# Altium footprint library freescale.PCBLIB: 12 footprints (part 1 of 2)
Each footprint in its own frame and in the unit in brackets; x right, y up, seen from the top. Pads: shape width x height; smd on the part's side, far side on the other; paste and mask are expansions set on the pad; w line width, h text height; cw(c..) or ccw(c..) is an arc to the next point about the centre after c.
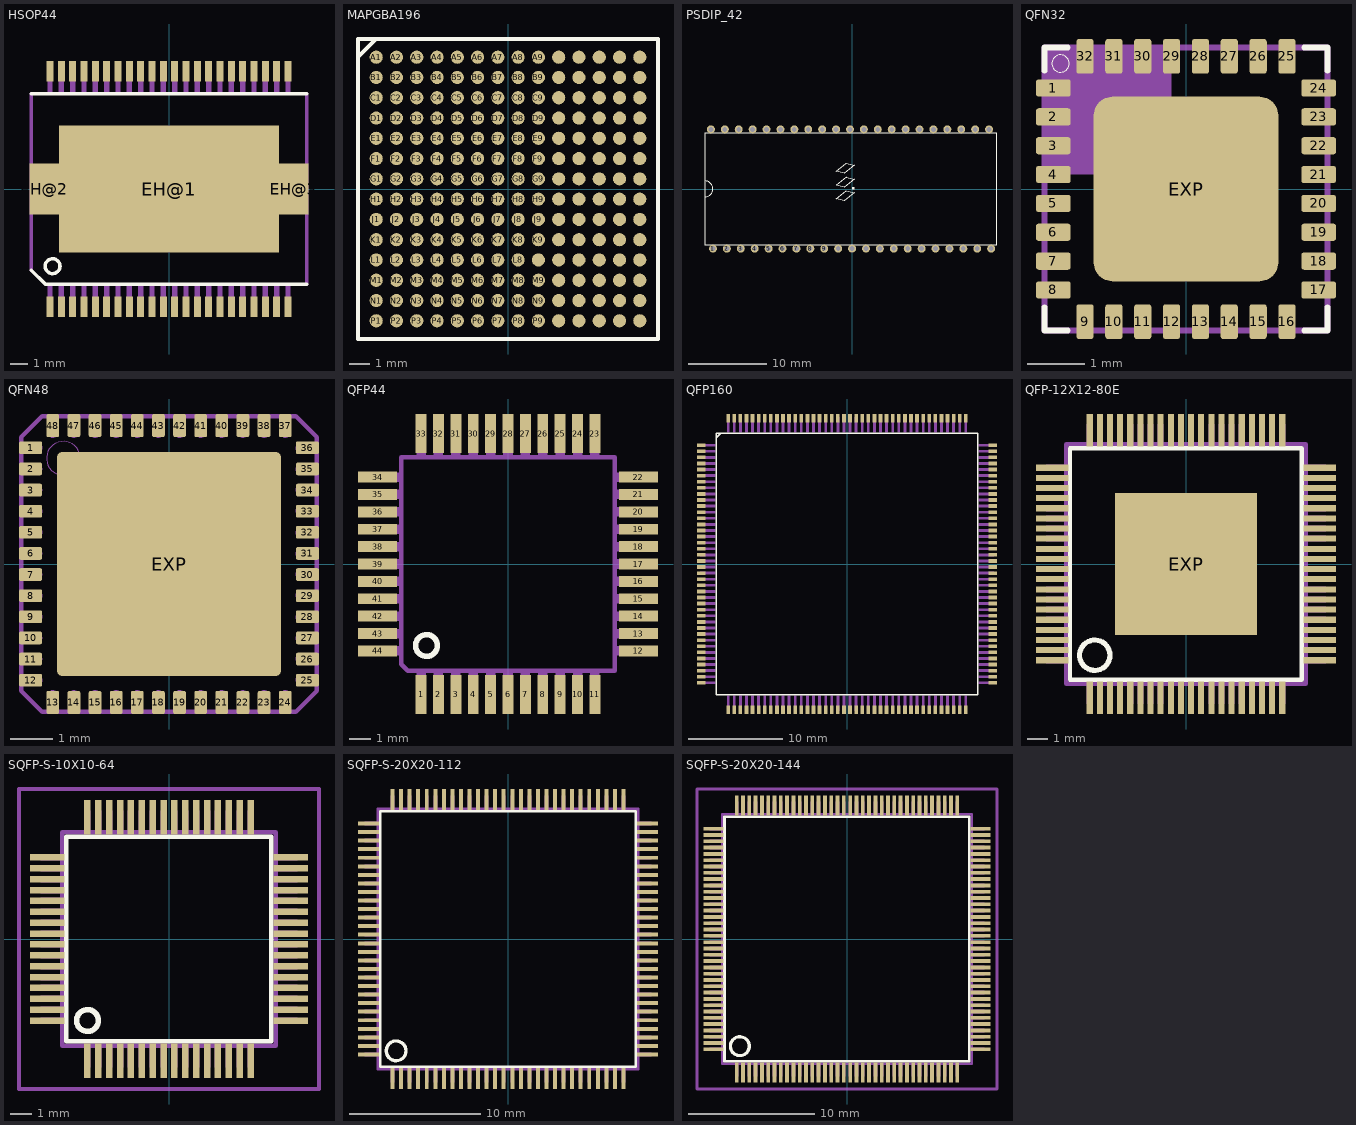
[diagram p0: the footprints below, top view; thin cyan lines are the x and y axes]

## HSOP44 [mm]
pads (47):
  rect 0.4x1.2 smd: 1(-6.825,-6.75) 2(-6.175,-6.75) 3(-5.525,-6.75) 4(-4.875,-6.75) 5(-4.225,-6.75) 6(-3.575,-6.75) 7(-2.925,-6.75) 8(-2.275,-6.75) 9(-1.625,-6.75) 10(-0.975,-6.75) 11(-0.325,-6.75) 12(0.325,-6.75) 13(0.975,-6.75) 14(1.625,-6.75) 15(2.275,-6.75) 16(2.925,-6.75) 17(3.575,-6.75) 18(4.225,-6.75) 19(4.875,-6.75) 20(5.525,-6.75) 21(6.175,-6.75) 22(6.825,-6.75) 23(6.825,6.75) 24(6.175,6.75) 25(5.525,6.75) 26(4.875,6.75) 27(4.225,6.75) 28(3.575,6.75) 29(2.925,6.75) 30(2.275,6.75) 31(1.625,6.75) 32(0.975,6.75) 33(0.325,6.75) 34(-0.325,6.75) 35(-0.975,6.75) 36(-1.625,6.75) 37(-2.275,6.75) 38(-2.925,6.75) 39(-3.575,6.75) 40(-4.225,6.75) 41(-4.875,6.75) 42(-5.525,6.75) 43(-6.175,6.75) 44(-6.825,6.75)
  rect 12.6x7.3 smd: EH@1(0,0)
  rect 1.7x2.9 smd: EH@2(-7.15,0) EH@3(7.15,0)
Top Overlay:
  circle w0.203: c-6.675,-4.425 r0.425
  lines w0.203: -7.9,-4.65 -7.1,-5.45 7.9,-5.45 ; -7.9,5.45 7.9,5.45
Top Solder:
  region: -6.6,-7.375 -6.6,-6.125 -7.05,-6.125 -7.05,-7.375
  region: -5.95,-7.375 -5.95,-6.125 -6.4,-6.125 -6.4,-7.375
  region: -5.3,-7.375 -5.3,-6.125 -5.75,-6.125 -5.75,-7.375
  region: -4.65,-7.375 -4.65,-6.125 -5.1,-6.125 -5.1,-7.375
  region: -4,-7.375 -4,-6.125 -4.45,-6.125 -4.45,-7.375
  region: -3.35,-7.375 -3.35,-6.125 -3.8,-6.125 -3.8,-7.375
  region: -2.7,-7.375 -2.7,-6.125 -3.15,-6.125 -3.15,-7.375
  region: -2.05,-7.375 -2.05,-6.125 -2.5,-6.125 -2.5,-7.375
  region: -1.4,-7.375 -1.4,-6.125 -1.85,-6.125 -1.85,-7.375
  region: -0.75,-7.375 -0.75,-6.125 -1.2,-6.125 -1.2,-7.375
  region: -0.1,-7.375 -0.1,-6.125 -0.55,-6.125 -0.55,-7.375
  region: 0.55,-7.375 0.55,-6.125 0.1,-6.125 0.1,-7.375
  region: 1.2,-7.375 1.2,-6.125 0.75,-6.125 0.75,-7.375
  region: 1.85,-7.375 1.85,-6.125 1.4,-6.125 1.4,-7.375
  region: 2.5,-7.375 2.5,-6.125 2.05,-6.125 2.05,-7.375
  region: 3.15,-7.375 3.15,-6.125 2.7,-6.125 2.7,-7.375
  region: 3.8,-7.375 3.8,-6.125 3.35,-6.125 3.35,-7.375
  region: 4.45,-7.375 4.45,-6.125 4,-6.125 4,-7.375
  region: 5.1,-7.375 5.1,-6.125 4.65,-6.125 4.65,-7.375
  region: 5.75,-7.375 5.75,-6.125 5.3,-6.125 5.3,-7.375
  region: 6.4,-7.375 6.4,-6.125 5.95,-6.125 5.95,-7.375
  region: 7.05,-7.375 7.05,-6.125 6.6,-6.125 6.6,-7.375
  region: 6.6,7.375 6.6,6.125 7.05,6.125 7.05,7.375
  region: 5.95,7.375 5.95,6.125 6.4,6.125 6.4,7.375
  region: 5.3,7.375 5.3,6.125 5.75,6.125 5.75,7.375
  region: 4.65,7.375 4.65,6.125 5.1,6.125 5.1,7.375
  region: 4,7.375 4,6.125 4.45,6.125 4.45,7.375
  region: 3.35,7.375 3.35,6.125 3.8,6.125 3.8,7.375
  region: 2.7,7.375 2.7,6.125 3.15,6.125 3.15,7.375
  region: 2.05,7.375 2.05,6.125 2.5,6.125 2.5,7.375
  region: 1.4,7.375 1.4,6.125 1.85,6.125 1.85,7.375
  region: 0.75,7.375 0.75,6.125 1.2,6.125 1.2,7.375
  region: 0.1,7.375 0.1,6.125 0.55,6.125 0.55,7.375
  region: -0.55,7.375 -0.55,6.125 -0.1,6.125 -0.1,7.375
  region: -1.2,7.375 -1.2,6.125 -0.75,6.125 -0.75,7.375
  region: -1.85,7.375 -1.85,6.125 -1.4,6.125 -1.4,7.375
  region: -2.5,7.375 -2.5,6.125 -2.05,6.125 -2.05,7.375
  region: -3.15,7.375 -3.15,6.125 -2.7,6.125 -2.7,7.375
  region: -3.8,7.375 -3.8,6.125 -3.35,6.125 -3.35,7.375
  region: -4.45,7.375 -4.45,6.125 -4,6.125 -4,7.375
  region: -5.1,7.375 -5.1,6.125 -4.65,6.125 -4.65,7.375
  region: -5.75,7.375 -5.75,6.125 -5.3,6.125 -5.3,7.375
  region: -6.4,7.375 -6.4,6.125 -5.95,6.125 -5.95,7.375
  region: -7.05,7.375 -7.05,6.125 -6.6,6.125 -6.6,7.375
Mechanical 16:
  region: -6.675,-7.225 -6.675,-5.55 -6.975,-5.55 -6.975,-7.225
  region: -6.025,-7.225 -6.025,-5.55 -6.325,-5.55 -6.325,-7.225
  region: -5.375,-7.225 -5.375,-5.55 -5.675,-5.55 -5.675,-7.225
  region: -4.725,-7.225 -4.725,-5.55 -5.025,-5.55 -5.025,-7.225
  region: -4.075,-7.225 -4.075,-5.55 -4.375,-5.55 -4.375,-7.225
  region: -3.425,-7.225 -3.425,-5.55 -3.725,-5.55 -3.725,-7.225
  region: -2.775,-7.225 -2.775,-5.55 -3.075,-5.55 -3.075,-7.225
  region: -2.125,-7.225 -2.125,-5.55 -2.425,-5.55 -2.425,-7.225
  region: -1.475,-7.225 -1.475,-5.55 -1.775,-5.55 -1.775,-7.225
  region: -0.825,-7.225 -0.825,-5.55 -1.125,-5.55 -1.125,-7.225
  region: -0.175,-7.225 -0.175,-5.55 -0.475,-5.55 -0.475,-7.225
  region: 0.475,-7.225 0.475,-5.55 0.175,-5.55 0.175,-7.225
  region: 1.125,-7.225 1.125,-5.55 0.825,-5.55 0.825,-7.225
  region: 1.775,-7.225 1.775,-5.55 1.475,-5.55 1.475,-7.225
  region: 2.425,-7.225 2.425,-5.55 2.125,-5.55 2.125,-7.225
  region: 3.075,-7.225 3.075,-5.55 2.775,-5.55 2.775,-7.225
  region: 3.725,-7.225 3.725,-5.55 3.425,-5.55 3.425,-7.225
  region: 4.375,-7.225 4.375,-5.55 4.075,-5.55 4.075,-7.225
  region: 5.025,-7.225 5.025,-5.55 4.725,-5.55 4.725,-7.225
  region: 5.675,-7.225 5.675,-5.55 5.375,-5.55 5.375,-7.225
  region: 6.325,-7.225 6.325,-5.55 6.025,-5.55 6.025,-7.225
  region: 6.975,-7.225 6.975,-5.55 6.675,-5.55 6.675,-7.225
  region: 6.675,7.225 6.675,5.55 6.975,5.55 6.975,7.225
  region: 6.025,7.225 6.025,5.55 6.325,5.55 6.325,7.225
  region: 5.375,7.225 5.375,5.55 5.675,5.55 5.675,7.225
  region: 4.725,7.225 4.725,5.55 5.025,5.55 5.025,7.225
  region: 4.075,7.225 4.075,5.55 4.375,5.55 4.375,7.225
  region: 3.425,7.225 3.425,5.55 3.725,5.55 3.725,7.225
  region: 2.775,7.225 2.775,5.55 3.075,5.55 3.075,7.225
  region: 2.125,7.225 2.125,5.55 2.425,5.55 2.425,7.225
  region: 1.475,7.225 1.475,5.55 1.775,5.55 1.775,7.225
  region: 0.825,7.225 0.825,5.55 1.125,5.55 1.125,7.225
  region: 0.175,7.225 0.175,5.55 0.475,5.55 0.475,7.225
  region: -0.475,7.225 -0.475,5.55 -0.175,5.55 -0.175,7.225
  region: -1.125,7.225 -1.125,5.55 -0.825,5.55 -0.825,7.225
  region: -1.775,7.225 -1.775,5.55 -1.475,5.55 -1.475,7.225
  region: -2.425,7.225 -2.425,5.55 -2.125,5.55 -2.125,7.225
  region: -3.075,7.225 -3.075,5.55 -2.775,5.55 -2.775,7.225
  region: -3.725,7.225 -3.725,5.55 -3.425,5.55 -3.425,7.225
  region: -4.375,7.225 -4.375,5.55 -4.075,5.55 -4.075,7.225
  region: -5.025,7.225 -5.025,5.55 -4.725,5.55 -4.725,7.225
  region: -5.675,7.225 -5.675,5.55 -5.375,5.55 -5.375,7.225
  region: -6.325,7.225 -6.325,5.55 -6.025,5.55 -6.025,7.225
  region: -6.975,7.225 -6.975,5.55 -6.675,5.55 -6.675,7.225
  lines w0.203: -7.9,-4.65 -7.9,-1.25 ; -7.9,5.45 -7.9,1.25 ; 7.9,-5.45 7.9,-1.25 ; 7.9,5.45 7.9,1.25 ; -7.9,-1.25 -6.8,-1.25 -6.8,1.25 -7.9,1.25 ; -7.9,-1.25 -7.9,1.25 ; 7.9,-1.25 6.8,-1.25 6.8,1.25 7.9,1.25 ; 7.9,-1.25 7.9,1.25

## MAPGBA196 [mm]
pads (196):
  rrect100% 0.65x0.65 smd: A1(-6.5,6.5) A2(-5.5,6.5) A3(-4.5,6.5) A4(-3.5,6.5) A5(-2.5,6.5) A6(-1.5,6.5) A7(-0.5,6.5) A8(0.5,6.5) A9(1.5,6.5) A10(2.5,6.5) A11(3.5,6.5) A12(4.5,6.5) A13(5.5,6.5) A14(6.5,6.5) B1(-6.5,5.5) B2(-5.5,5.5) B3(-4.5,5.5) B4(-3.5,5.5) B5(-2.5,5.5) B6(-1.5,5.5) B7(-0.5,5.5) B8(0.5,5.5) B9(1.5,5.5) B10(2.5,5.5) B11(3.5,5.5) B12(4.5,5.5) B13(5.5,5.5) B14(6.5,5.5) C1(-6.5,4.5) C2(-5.5,4.5) C3(-4.5,4.5) C4(-3.5,4.5) C5(-2.5,4.5) C6(-1.5,4.5) C7(-0.5,4.5) C8(0.5,4.5) C9(1.5,4.5) C10(2.5,4.5) C11(3.5,4.5) C12(4.5,4.5) C13(5.5,4.5) C14(6.5,4.5) D1(-6.5,3.5) D2(-5.5,3.5) D3(-4.5,3.5) D4(-3.5,3.5) D5(-2.5,3.5) D6(-1.5,3.5) D7(-0.5,3.5) D8(0.5,3.5) D9(1.5,3.5) D10(2.5,3.5) D11(3.5,3.5) D12(4.5,3.5) D13(5.5,3.5) D14(6.5,3.5) E1(-6.5,2.5) E2(-5.5,2.5) E3(-4.5,2.5) E4(-3.5,2.5) E5(-2.5,2.5) E6(-1.5,2.5) E7(-0.5,2.5) E8(0.5,2.5) E9(1.5,2.5) E10(2.5,2.5) E11(3.5,2.5) E12(4.5,2.5) E13(5.5,2.5) E14(6.5,2.5) F1(-6.5,1.5) F2(-5.5,1.5) F3(-4.5,1.5) F4(-3.5,1.5) F5(-2.5,1.5) F6(-1.5,1.5) F7(-0.5,1.5) F8(0.5,1.5) F9(1.5,1.5) F10(2.5,1.5) F11(3.5,1.5) F12(4.5,1.5) F13(5.5,1.5) F14(6.5,1.5) G1(-6.5,0.5) G2(-5.5,0.5) G3(-4.5,0.5) G4(-3.5,0.5) G5(-2.5,0.5) G6(-1.5,0.5) G7(-0.5,0.5) G8(0.5,0.5) G9(1.5,0.5) G10(2.5,0.5) G11(3.5,0.5) G12(4.5,0.5) G13(5.5,0.5) G14(6.5,0.5) H1(-6.5,-0.5) H2(-5.5,-0.5) H3(-4.5,-0.5) H4(-3.5,-0.5) H5(-2.5,-0.5) H6(-1.5,-0.5) H7(-0.5,-0.5) H8(0.5,-0.5) H9(1.5,-0.5) H10(2.5,-0.5) H11(3.5,-0.5) H12(4.5,-0.5) H13(5.5,-0.5) H14(6.5,-0.5) J1(-6.5,-1.5) J2(-5.5,-1.5) J3(-4.5,-1.5) J4(-3.5,-1.5) J5(-2.5,-1.5) J6(-1.5,-1.5) J7(-0.5,-1.5) J8(0.5,-1.5) J9(1.5,-1.5) J10(2.5,-1.5) J11(3.5,-1.5) J12(4.5,-1.5) J13(5.5,-1.5) J14(6.5,-1.5) K1(-6.5,-2.5) K2(-5.5,-2.5) K3(-4.5,-2.5) K4(-3.5,-2.5) K5(-2.5,-2.5) K6(-1.5,-2.5) K7(-0.5,-2.5) K8(0.5,-2.5) K9(1.5,-2.5) K10(2.5,-2.5) K11(3.5,-2.5) K12(4.5,-2.5) K13(5.5,-2.5) K14(6.5,-2.5) L1(-6.5,-3.5) L2(-5.5,-3.5) L3(-4.5,-3.5) L4(-3.5,-3.5) L5(-2.5,-3.5) L6(-1.5,-3.5) L7(-0.5,-3.5) L8(0.5,-3.5) L9,(1.5,-3.5) L10(2.5,-3.5) L11(3.5,-3.5) L12(4.5,-3.5) L13(5.5,-3.5) L14(6.5,-3.5) M1(-6.5,-4.5) M2(-5.5,-4.5) M3(-4.5,-4.5) M4(-3.5,-4.5) M5(-2.5,-4.5) M6(-1.5,-4.5) M7(-0.5,-4.5) M8(0.5,-4.5) M9(1.5,-4.5) M10(2.5,-4.5) M11(3.5,-4.5) M12(4.5,-4.5) M13(5.5,-4.5) M14(6.5,-4.5) N1(-6.5,-5.5) N2(-5.5,-5.5) N3(-4.5,-5.5) N4(-3.5,-5.5) N5(-2.5,-5.5) N6(-1.5,-5.5) N7(-0.5,-5.5) N8(0.5,-5.5) N9(1.5,-5.5) N10(2.5,-5.5) N11(3.5,-5.5) N12(4.5,-5.5) N13(5.5,-5.5) N14(6.5,-5.5) P1(-6.5,-6.5) P2(-5.5,-6.5) P3(-4.5,-6.5) P4(-3.5,-6.5) P5(-2.5,-6.5) P6(-1.5,-6.5) P7(-0.5,-6.5) P8(0.5,-6.5) P9(1.5,-6.5) P10(2.5,-6.5) P11(3.5,-6.5) P12(4.5,-6.5) P13(5.5,-6.5) P14(6.5,-6.5)
Top Overlay:
  lines w0.203: -7.399,6.5 -7.399,7.399 -6.5,7.399 ; -7.399,6.5 -7.399,-7.399 7.399,-7.399 7.399,7.399 -6.5,7.399 ; -7.399,6.5 -6.5,7.399
Top Solder:
  drawing of 196 lines, arcs and shapes, not listed

## PSDIP_42 [mil]
pads (42):
  round 40 hole 24: 1(-700,-300) 2(-630,-300) 3(-560,-300) 4(-490,-300) 5(-420,-300) 6(-350,-300) 7(-280,-300) 8(-210,-300) 9(-140,-300) 10(-70,-300) 11(0,-300) 12(70,-300) 13(140,-300) 14(210,-300) 15(280,-300) 16(350,-300) 17(420,-300) 18(490,-300) 19(560,-300) 20(630,-300) 21(700,-300) 22(689.5,300) 23(619.5,300) 24(549.5,300) 25(479.5,300) 26(409.5,300) 27(339.5,300) 28(269.5,300) 29(199.5,300) 30(129.5,300) 31(59.5,300) 32(-10.5,300) 33(-80.5,300) 34(-150.5,300) 35(-220.5,300) 36(-290.5,300) 37(-360.5,300) 38(-430.5,300) 39(-500.5,300) 40(-570.5,300) 41(-640.5,300) 42(-710.5,300)
Top Overlay:
  region: 0,0 10,0 10,10 0,10
  region: 0,0 10,0 10,10 0,10
  region: 0,0 10,0 10,10 0,10
  region: 0,0 10,0 10,10 0,10
  region: 0,0 10,0 10,10 0,10
  lines w5: -740.5,-39.5 -740.5,40.5 ; -740.5,-39.5 -740.5,-280 729.5,-280 729.5,280 -740.5,280 -740.5,40.5 ; -740.5,-39.5 ccw(c-740.5,0.5) -740.5,40.5 ; -80,-50 -30,-10 10,-20 -40,-60 -80,-50 ; -80,20 -30,60 10,50 -40,10 -80,20 ; -80,90 -40,80 10,120 -30,130 -80,90

## QFN32 [mm]
pads (33):
  rrect30% 0.6x0.3 smd: 1(-2.3,1.75) 2(-2.3,1.25) 3(-2.3,0.75) 4(-2.3,0.25) 5(-2.3,-0.25) 6(-2.3,-0.75) 7(-2.3,-1.25) 8(-2.3,-1.75) 17(2.3,-1.75) 18(2.3,-1.25) 19(2.3,-0.75) 20(2.3,-0.25) 21(2.3,0.25) 22(2.3,0.75) 23(2.3,1.25) 24(2.3,1.75)
  rrect30% 0.3x0.6 smd: 9(-1.75,-2.3) 10(-1.25,-2.3) 11(-0.75,-2.3) 12(-0.25,-2.3) 13(0.25,-2.3) 14(0.75,-2.3) 15(1.25,-2.3) 16(1.75,-2.3) 25(1.75,2.3) 26(1.25,2.3) 27(0.75,2.3) 28(0.25,2.3) 29(-0.25,2.3) 30(-0.75,2.3) 31(-1.25,2.3) 32(-1.75,2.3)
  rrect20% 3.2x3.2 smd: EXP(0,0)
Top Overlay:
  circle w0: c-2.175,2.175 r0.15
  lines w0.102: -2.45,-2.05 -2.45,-2.45 -2.05,-2.45 ; -2.45,2.05 -2.45,2.45 -2.05,2.45 ; 2.05,-2.45 2.45,-2.45 2.45,-2.05 ; 2.05,2.45 2.45,2.45 2.45,2.05
Top Paste:
  rectangle: -0.3,1.1 0.3,1.4
  rectangle: -0.3,0.6 0.3,0.9
  rectangle: -0.3,0.1 0.3,0.4
  rectangle: -0.3,-0.4 0.3,-0.1
  rectangle: -0.3,-0.9 0.3,-0.6
  rectangle: -0.3,-1.4 0.3,-1.1
  rectangle: -1.3,1.1 -0.7,1.4
  rectangle: -1.3,0.6 -0.7,0.9
  rectangle: -1.3,0.1 -0.7,0.4
  rectangle: -1.3,-0.4 -0.7,-0.1
  rectangle: -1.3,-0.9 -0.7,-0.6
  rectangle: -1.3,-1.4 -0.7,-1.1
  rectangle: 0.7,1.1 1.3,1.4
  rectangle: 0.7,0.6 1.3,0.9
  rectangle: 0.7,0.1 1.3,0.4
  rectangle: 0.7,-0.4 1.3,-0.1
  rectangle: 0.7,-0.9 1.3,-0.6
  rectangle: 0.7,-1.4 1.3,-1.1
  region: 0,0 0.254,0 0.254,0.254 0,0.254
  region: 0,0 0.254,0 0.254,0.254 0,0.254
  region: 0,0 0.254,0 0.254,0.254 0,0.254
  region: 0,0 0.254,0 0.254,0.254 0,0.254
  region: 0,0 0.254,0 0.254,0.254 0,0.254
  region: 0,0 0.254,0 0.254,0.254 0,0.254
  region: 0,0 0.254,0 0.254,0.254 0,0.254
  region: 0,0 0.254,0 0.254,0.254 0,0.254
  region: 0,0 0.254,0 0.254,0.254 0,0.254
  region: 0,0 0.254,0 0.254,0.254 0,0.254
  region: 0,0 0.254,0 0.254,0.254 0,0.254
  region: 0,0 0.254,0 0.254,0.254 0,0.254
  region: 0,0 0.254,0 0.254,0.254 0,0.254
  region: 0,0 0.254,0 0.254,0.254 0,0.254
  region: 0,0 0.254,0 0.254,0.254 0,0.254
  region: 0,0 0.254,0 0.254,0.254 0,0.254
  region: 0,0 0.254,0 0.254,0.254 0,0.254
  region: 0,0 0.254,0 0.254,0.254 0,0.254
  region: 0,0 0.254,0 0.254,0.254 0,0.254
  region: 0,0 0.254,0 0.254,0.254 0,0.254
  region: 0,0 0.254,0 0.254,0.254 0,0.254
  region: 0,0 0.254,0 0.254,0.254 0,0.254
  region: 0,0 0.254,0 0.254,0.254 0,0.254
  region: 0,0 0.254,0 0.254,0.254 0,0.254
  region: 0,0 0.254,0 0.254,0.254 0,0.254
  region: 0,0 0.254,0 0.254,0.254 0,0.254
  region: 0,0 0.254,0 0.254,0.254 0,0.254
  region: 0,0 0.254,0 0.254,0.254 0,0.254
  region: 0,0 0.254,0 0.254,0.254 0,0.254
  region: 0,0 0.254,0 0.254,0.254 0,0.254
  region: 0,0 0.254,0 0.254,0.254 0,0.254
  region: 0,0 0.254,0 0.254,0.254 0,0.254
Top Solder:
  region: 0,0 0.254,0 0.254,0.254 0,0.254
  region: 0,0 0.254,0 0.254,0.254 0,0.254
  region: 0,0 0.254,0 0.254,0.254 0,0.254
  region: 0,0 0.254,0 0.254,0.254 0,0.254
  region: 0,0 0.254,0 0.254,0.254 0,0.254
  region: 0,0 0.254,0 0.254,0.254 0,0.254
  region: 0,0 0.254,0 0.254,0.254 0,0.254
  region: 0,0 0.254,0 0.254,0.254 0,0.254
  region: 0,0 0.254,0 0.254,0.254 0,0.254
  region: 0,0 0.254,0 0.254,0.254 0,0.254
  region: 0,0 0.254,0 0.254,0.254 0,0.254
  region: 0,0 0.254,0 0.254,0.254 0,0.254
  region: 0,0 0.254,0 0.254,0.254 0,0.254
  region: 0,0 0.254,0 0.254,0.254 0,0.254
  region: 0,0 0.254,0 0.254,0.254 0,0.254
  region: 0,0 0.254,0 0.254,0.254 0,0.254
  region: 0,0 0.254,0 0.254,0.254 0,0.254
  region: 0,0 0.254,0 0.254,0.254 0,0.254
  region: 0,0 0.254,0 0.254,0.254 0,0.254
  region: 0,0 0.254,0 0.254,0.254 0,0.254
  region: 0,0 0.254,0 0.254,0.254 0,0.254
  region: 0,0 0.254,0 0.254,0.254 0,0.254
  region: 0,0 0.254,0 0.254,0.254 0,0.254
  region: 0,0 0.254,0 0.254,0.254 0,0.254
  region: 0,0 0.254,0 0.254,0.254 0,0.254
  region: 0,0 0.254,0 0.254,0.254 0,0.254
  region: 0,0 0.254,0 0.254,0.254 0,0.254
  region: 0,0 0.254,0 0.254,0.254 0,0.254
  region: 0,0 0.254,0 0.254,0.254 0,0.254
  region: 0,0 0.254,0 0.254,0.254 0,0.254
  region: 0,0 0.254,0 0.254,0.254 0,0.254
  region: 0,0 0.254,0 0.254,0.254 0,0.254
  region: 0,0 0.254,0 0.254,0.254 0,0.254
Mechanical 16:
  rectangle: -2.5,0.25 -0.25,2.5
  lines w0.102: -2.45,-2.45 2.45,-2.45 2.45,2.45 -2.45,2.45 -2.45,-2.45

## QFN48 [mil]
pads (49):
  rrect30% 21.65x11.81 smd: 1(-128.94,108.27) 2(-128.94,88.58) 3(-128.94,68.9) 4(-128.94,49.21) 5(-128.94,29.53) 6(-128.94,9.84) 7(-128.94,-9.84) 8(-128.94,-29.53) 9(-128.94,-49.21) 10(-128.94,-68.9) 11(-128.94,-88.58) 12(-128.94,-108.27) 25(128.94,-108.27) 26(128.94,-88.58) 27(128.94,-68.9) 28(128.94,-49.21) 29(128.94,-29.53) 30(128.94,-9.84) 31(128.94,9.84) 32(128.94,29.53) 33(128.94,49.21) 34(128.94,68.9) 35(128.94,88.58) 36(128.94,108.27)
  rrect30% 11.81x21.65 smd: 13(-108.27,-128.94) 14(-88.58,-128.94) 15(-68.9,-128.94) 16(-49.21,-128.94) 17(-29.53,-128.94) 18(-9.84,-128.94) 19(9.84,-128.94) 20(29.53,-128.94) 21(49.21,-128.94) 22(68.9,-128.94) 23(88.58,-128.94) 24(108.27,-128.94) 37(108.27,128.94) 38(88.58,128.94) 39(68.9,128.94) 40(49.21,128.94) 41(29.53,128.94) 42(9.84,128.94) 43(-9.84,128.94) 44(-29.53,128.94) 45(-49.21,128.94) 46(-68.9,128.94) 47(-88.58,128.94) 48(-108.27,128.94)
  rrect5% 209x209 smd: EXP(0,0)
Top Paste:
  drawing of 241 lines, arcs and shapes, not listed
Top Solder:
  drawing of 241 lines, arcs and shapes, not listed
Mechanical 16:
  circle w0: c-122.64,108.27 r4.53
  circle w0: c-122.64,88.58 r4.53
  circle w0: c-122.64,68.9 r4.53
  circle w0: c-122.64,49.21 r4.53
  circle w0: c-122.64,29.53 r4.53
  circle w0: c-122.64,9.84 r4.53
  circle w0: c-122.64,-9.84 r4.53
  circle w0: c-122.64,-29.53 r4.53
  circle w0: c-122.64,-49.21 r4.53
  circle w0: c-122.64,-68.9 r4.53
  circle w0: c-122.64,-88.58 r4.53
  circle w0: c-122.64,-108.27 r4.53
  circle w0: c-108.27,-122.64 r4.53
  circle w0: c-88.58,-122.64 r4.53
  circle w0: c-68.9,-122.64 r4.53
  circle w0: c-49.21,-122.64 r4.53
  circle w0: c-29.53,-122.64 r4.53
  circle w0: c-9.84,-122.64 r4.53
  circle w0: c9.84,-122.64 r4.53
  circle w0: c29.53,-122.64 r4.53
  circle w0: c49.21,-122.64 r4.53
  circle w0: c68.9,-122.64 r4.53
  circle w0: c88.58,-122.64 r4.53
  circle w0: c108.27,-122.64 r4.53
  circle w0: c122.64,-108.27 r4.53
  circle w0: c122.64,-88.58 r4.53
  circle w0: c122.64,-68.9 r4.53
  circle w0: c122.64,-49.21 r4.53
  circle w0: c122.64,-29.53 r4.53
  circle w0: c122.64,-9.84 r4.53
  circle w0: c122.64,9.84 r4.53
  circle w0: c122.64,29.53 r4.53
  circle w0: c122.64,49.21 r4.53
  circle w0: c122.64,68.9 r4.53
  circle w0: c122.64,88.58 r4.53
  circle w0: c122.64,108.27 r4.53
  circle w0: c108.27,122.64 r4.53
  circle w0: c88.58,122.64 r4.53
  circle w0: c68.9,122.64 r4.53
  circle w0: c49.21,122.64 r4.53
  circle w0: c29.53,122.64 r4.53
  circle w0: c9.84,122.64 r4.53
  circle w0: c-9.84,122.64 r4.53
  circle w0: c-29.53,122.64 r4.53
  circle w0: c-49.21,122.64 r4.53
  circle w0: c-68.9,122.64 r4.53
  circle w0: c-88.58,122.64 r4.53
  circle w0: c-108.27,122.64 r4.53
  circle w0: c-98.43,98.43 r15.75
  region: -139.77,112.8 -139.77,103.73 -122.84,103.73 -122.84,112.8
  region: -139.77,93.12 -139.77,84.06 -122.84,84.06 -122.84,93.12
  region: -139.77,73.43 -139.77,64.36 -122.84,64.36 -122.84,73.43
  region: -139.77,53.75 -139.77,44.68 -122.84,44.68 -122.84,53.75
  region: -139.77,34.06 -139.77,24.99 -122.84,24.99 -122.84,34.06
  region: -139.77,14.38 -139.77,5.31 -122.84,5.31 -122.84,14.38
  region: -139.77,-5.31 -139.77,-14.38 -122.84,-14.38 -122.84,-5.31
  region: -139.77,-24.99 -139.77,-34.06 -122.84,-34.06 -122.84,-24.99
  region: -139.77,-44.68 -139.77,-53.75 -122.84,-53.75 -122.84,-44.68
  region: -139.77,-64.36 -139.77,-73.43 -122.84,-73.43 -122.84,-64.36
  region: -139.77,-84.06 -139.77,-93.12 -122.84,-93.12 -122.84,-84.06
  region: -139.77,-103.73 -139.77,-112.8 -122.84,-112.8 -122.84,-103.73
  rectangle: -112.8,-139.76 -103.74,-122.83
  rectangle: -93.11,-139.76 -84.06,-122.83
  rectangle: -73.43,-139.76 -64.37,-122.83
  rectangle: -53.74,-139.76 -44.69,-122.83
  rectangle: -34.06,-139.76 -25,-122.83
  rectangle: -14.37,-139.76 -5.32,-122.83
  rectangle: 5.32,-139.76 14.37,-122.83
  rectangle: 25,-139.76 34.06,-122.83
  rectangle: 44.69,-139.76 53.74,-122.83
  rectangle: 64.37,-139.76 73.43,-122.83
  rectangle: 84.06,-139.76 93.11,-122.83
  rectangle: 103.74,-139.76 112.8,-122.83
  region: 139.77,-112.8 139.77,-103.73 122.84,-103.73 122.84,-112.8
  region: 139.77,-93.12 139.77,-84.06 122.84,-84.06 122.84,-93.12
  region: 139.77,-73.43 139.77,-64.36 122.84,-64.36 122.84,-73.43
  region: 139.77,-53.75 139.77,-44.68 122.84,-44.68 122.84,-53.75
  region: 139.77,-34.06 139.77,-24.99 122.84,-24.99 122.84,-34.06
  region: 139.77,-14.38 139.77,-5.31 122.84,-5.31 122.84,-14.38
  region: 139.77,5.31 139.77,14.38 122.84,14.38 122.84,5.31
  region: 139.77,24.99 139.77,34.06 122.84,34.06 122.84,24.99
  region: 139.77,44.68 139.77,53.75 122.84,53.75 122.84,44.68
  region: 139.77,64.36 139.77,73.43 122.84,73.43 122.84,64.36
  region: 139.77,84.06 139.77,93.12 122.84,93.12 122.84,84.06
  region: 139.77,103.73 139.77,112.8 122.84,112.8 122.84,103.73
  region: 112.8,139.76 103.74,139.76 103.74,122.83 112.8,122.83
  region: 93.11,139.76 84.06,139.76 84.06,122.83 93.11,122.83
  region: 73.43,139.76 64.37,139.76 64.37,122.83 73.43,122.83
  region: 53.74,139.76 44.69,139.76 44.69,122.83 53.74,122.83
  region: 34.06,139.76 25,139.76 25,122.83 34.06,122.83
  region: 14.37,139.76 5.32,139.76 5.32,122.83 14.37,122.83
  region: -5.32,139.76 -14.37,139.76 -14.37,122.83 -5.32,122.83
  region: -25,139.76 -34.06,139.76 -34.06,122.83 -25,122.83
  region: -44.69,139.76 -53.74,139.76 -53.74,122.83 -44.69,122.83
  region: -64.37,139.76 -73.43,139.76 -73.43,122.83 -64.37,122.83
  region: -84.06,139.76 -93.11,139.76 -93.11,122.83 -84.06,122.83
  region: -103.74,139.76 -112.8,139.76 -112.8,122.83 -103.74,122.83
  lines w4: -137.8,-118.11 -118.11,-137.8 118.11,-137.8 137.8,-118.11 137.8,118.11 118.11,137.8 -118.11,137.8 -137.8,118.11 -137.8,-118.11

## QFP44 [mm]
pads (44):
  rect 0.5x1.8 smd: 1(-4,-6) 2(-3.2,-6) 3(-2.4,-6) 4(-1.6,-6) 5(-0.8,-6) 6(0,-6) 7(0.8,-6) 8(1.6,-6) 9(2.4,-6) 10(3.2,-6) 11(4,-6) 23(4,6) 24(3.2,6) 25(2.4,6) 26(1.6,6) 27(0.8,6) 28(0,6) 29(-0.8,6) 30(-1.6,6) 31(-2.4,6) 32(-3.2,6) 33(-4,6)
  rect 1.8x0.5 smd: 12(6,-4) 13(6,-3.2) 14(6,-2.4) 15(6,-1.6) 16(6,-0.8) 17(6,0) 18(6,0.8) 19(6,1.6) 20(6,2.4) 21(6,3.2) 22(6,4) 34(-6,4) 35(-6,3.2) 36(-6,2.4) 37(-6,1.6) 38(-6,0.8) 39(-6,0) 40(-6,-0.8) 41(-6,-1.6) 42(-6,-2.4) 43(-6,-3.2) 44(-6,-4)
Top Overlay:
  circle w0.254: c-3.75,-3.75 r0.5
Mechanical 16:
  rectangle: -4.22,-6.72 -3.78,-4.95
  rectangle: -3.42,-6.72 -2.98,-4.95
  rectangle: -2.62,-6.72 -2.18,-4.95
  rectangle: -1.82,-6.72 -1.38,-4.95
  rectangle: -1.02,-6.72 -0.58,-4.95
  rectangle: -0.22,-6.72 0.22,-4.95
  rectangle: 0.58,-6.72 1.02,-4.95
  rectangle: 1.38,-6.72 1.82,-4.95
  rectangle: 2.18,-6.72 2.62,-4.95
  rectangle: 2.98,-6.72 3.42,-4.95
  rectangle: 3.78,-6.72 4.22,-4.95
  rectangle: 4.95,-4.22 6.72,-3.78
  rectangle: 4.95,-3.42 6.72,-2.98
  rectangle: 4.95,-2.62 6.72,-2.18
  rectangle: 4.95,-1.82 6.72,-1.38
  rectangle: 4.95,-1.02 6.72,-0.58
  rectangle: 4.95,-0.22 6.72,0.22
  rectangle: 4.95,0.58 6.72,1.02
  rectangle: 4.95,1.38 6.72,1.82
  rectangle: 4.95,2.18 6.72,2.62
  rectangle: 4.95,2.98 6.72,3.42
  rectangle: 4.95,3.78 6.72,4.22
  rectangle: 3.78,4.95 4.22,6.72
  rectangle: 2.98,4.95 3.42,6.72
  rectangle: 2.18,4.95 2.62,6.72
  rectangle: 1.38,4.95 1.82,6.72
  rectangle: 0.58,4.95 1.02,6.72
  rectangle: -0.22,4.95 0.22,6.72
  rectangle: -1.02,4.95 -0.58,6.72
  rectangle: -1.82,4.95 -1.38,6.72
  rectangle: -2.62,4.95 -2.18,6.72
  rectangle: -3.42,4.95 -2.98,6.72
  rectangle: -4.22,4.95 -3.78,6.72
  rectangle: -6.72,3.78 -4.95,4.22
  rectangle: -6.72,2.98 -4.95,3.42
  rectangle: -6.72,2.18 -4.95,2.62
  rectangle: -6.72,1.38 -4.95,1.82
  rectangle: -6.72,0.58 -4.95,1.02
  rectangle: -6.72,-0.22 -4.95,0.22
  rectangle: -6.72,-1.02 -4.95,-0.58
  rectangle: -6.72,-1.82 -4.95,-1.38
  rectangle: -6.72,-2.62 -4.95,-2.18
  rectangle: -6.72,-3.42 -4.95,-2.98
  rectangle: -6.72,-4.22 -4.95,-3.78
  lines w0.203: -4.91,-4.61 -4.91,4.91 4.91,4.91 4.91,-4.91 -4.61,-4.91 -4.91,-4.61

## QFP160 [mm]
pads (160):
  rect 0.9x0.4 smd: 1(-15.55,12.675) 2(-15.55,12.025) 3(-15.55,11.375) 4(-15.55,10.725) 5(-15.55,10.075) 6(-15.55,9.425) 7(-15.55,8.775) 8(-15.55,8.125) 9(-15.55,7.475) 10(-15.55,6.825) 11(-15.55,6.175) 12(-15.55,5.525) 13(-15.55,4.875) 14(-15.55,4.225) 15(-15.55,3.575) 16(-15.55,2.925) 17(-15.55,2.275) 18(-15.55,1.625) 19(-15.55,0.975) 20(-15.55,0.325) 21(-15.55,-0.325) 22(-15.55,-0.975) 23(-15.55,-1.625) 24(-15.55,-2.275) 25(-15.55,-2.925) 26(-15.55,-3.575) 27(-15.55,-4.225) 28(-15.55,-4.875) 29(-15.55,-5.525) 30(-15.55,-6.175) 31(-15.55,-6.825) 32(-15.55,-7.475) 33(-15.55,-8.125) 34(-15.55,-8.775) 35(-15.55,-9.425) 36(-15.55,-10.075) 37(-15.55,-10.725) 38(-15.55,-11.375) 39(-15.55,-12.025) 40(-15.55,-12.675) 81(15.55,-12.675) 82(15.55,-12.025) 83(15.55,-11.375) 84(15.55,-10.725) 85(15.55,-10.075) 86(15.55,-9.425) 87(15.55,-8.775) 88(15.55,-8.125) 89(15.55,-7.475) 90(15.55,-6.825) 91(15.55,-6.175) 92(15.55,-5.525) 93(15.55,-4.875) 94(15.55,-4.225) 95(15.55,-3.575) 96(15.55,-2.925) 97(15.55,-2.275) 98(15.55,-1.625) 99(15.55,-0.975) 100(15.55,-0.325) 101(15.55,0.325) 102(15.55,0.975) 103(15.55,1.625) 104(15.55,2.275) 105(15.55,2.925) 106(15.55,3.575) 107(15.55,4.225) 108(15.55,4.875) 109(15.55,5.525) 110(15.55,6.175) 111(15.55,6.825) 112(15.55,7.475) 113(15.55,8.125) 114(15.55,8.775) 115(15.55,9.425) 116(15.55,10.075) 117(15.55,10.725) 118(15.55,11.375) 119(15.55,12.025) 120(15.55,12.675)
  rect 0.4x0.9 smd: 41(-12.675,-15.55) 42(-12.025,-15.55) 43(-11.375,-15.55) 44(-10.725,-15.55) 45(-10.075,-15.55) 46(-9.425,-15.55) 47(-8.775,-15.55) 48(-8.125,-15.55) 49(-7.475,-15.55) 50(-6.825,-15.55) 51(-6.175,-15.55) 52(-5.525,-15.55) 53(-4.875,-15.55) 54(-4.225,-15.55) 55(-3.575,-15.55) 56(-2.925,-15.55) 57(-2.275,-15.55) 58(-1.625,-15.55) 59(-0.975,-15.55) 60(-0.325,-15.55) 61(0.325,-15.55) 62(0.975,-15.55) 63(1.625,-15.55) 64(2.275,-15.55) 65(2.925,-15.55) 66(3.575,-15.55) 67(4.225,-15.55) 68(4.875,-15.55) 69(5.525,-15.55) 70(6.175,-15.55) 71(6.825,-15.55) 72(7.475,-15.55) 73(8.125,-15.55) 74(8.775,-15.55) 75(9.425,-15.55) 76(10.075,-15.55) 77(10.725,-15.55) 78(11.375,-15.55) 79(12.025,-15.55) 80(12.675,-15.55) 121(12.675,15.55) 122(12.025,15.55) 123(11.375,15.55) 124(10.725,15.55) 125(10.075,15.55) 126(9.425,15.55) 127(8.775,15.55) 128(8.125,15.55) 129(7.475,15.55) 130(6.825,15.55) 131(6.175,15.55) 132(5.525,15.55) 133(4.875,15.55) 134(4.225,15.55) 135(3.575,15.55) 136(2.925,15.55) 137(2.275,15.55) 138(1.625,15.55) 139(0.975,15.55) 140(0.325,15.55) 141(-0.325,15.55) 142(-0.975,15.55) 143(-1.625,15.55) 144(-2.275,15.55) 145(-2.925,15.55) 146(-3.575,15.55) 147(-4.225,15.55) 148(-4.875,15.55) 149(-5.525,15.55) 150(-6.175,15.55) 151(-6.825,15.55) 152(-7.475,15.55) 153(-8.125,15.55) 154(-8.775,15.55) 155(-9.425,15.55) 156(-10.075,15.55) 157(-10.725,15.55) 158(-11.375,15.55) 159(-12.025,15.55) 160(-12.675,15.55)
Top Overlay:
  lines w0.203: -13.948,13.45 -13.45,13.948 ; -13.948,-13.948 13.948,-13.948 13.948,13.948 -13.948,13.948 -13.948,-13.948
Mechanical 16:
  drawing of 160 lines, arcs and shapes, not listed

## QFP-12X12-80E [mm]
pads (81):
  rect 0.3x1.6 smd: 1(-4.75,-6.6) 2(-4.25,-6.6) 3(-3.75,-6.6) 4(-3.25,-6.6) 5(-2.75,-6.6) 6(-2.25,-6.6) 7(-1.75,-6.6) 8(-1.25,-6.6) 9(-0.75,-6.6) 10(-0.25,-6.6) 11(0.25,-6.6) 12(0.75,-6.6) 13(1.25,-6.6) 14(1.75,-6.6) 15(2.25,-6.6) 16(2.75,-6.6) 17(3.25,-6.6) 18(3.75,-6.6) 19(4.25,-6.6) 20(4.75,-6.6) 41(4.75,6.6) 42(4.25,6.6) 43(3.75,6.6) 44(3.25,6.6) 45(2.75,6.6) 46(2.25,6.6) 47(1.75,6.6) 48(1.25,6.6) 49(0.75,6.6) 50(0.25,6.6) 51(-0.25,6.6) 52(-0.75,6.6) 53(-1.25,6.6) 54(-1.75,6.6) 55(-2.25,6.6) 56(-2.75,6.6) 57(-3.25,6.6) 58(-3.75,6.6) 59(-4.25,6.6) 60(-4.75,6.6)
  rect 1.6x0.3 smd: 21(6.6,-4.75) 22(6.6,-4.25) 23(6.6,-3.75) 24(6.6,-3.25) 25(6.6,-2.75) 26(6.6,-2.25) 27(6.6,-1.75) 28(6.6,-1.25) 29(6.6,-0.75) 30(6.6,-0.25) 31(6.6,0.25) 32(6.6,0.75) 33(6.6,1.25) 34(6.6,1.75) 35(6.6,2.25) 36(6.6,2.75) 37(6.6,3.25) 38(6.6,3.75) 39(6.6,4.25) 40(6.6,4.75) 61(-6.6,4.75) 62(-6.6,4.25) 63(-6.6,3.75) 64(-6.6,3.25) 65(-6.6,2.75) 66(-6.6,2.25) 67(-6.6,1.75) 68(-6.6,1.25) 69(-6.6,0.75) 70(-6.6,0.25) 71(-6.6,-0.25) 72(-6.6,-0.75) 73(-6.6,-1.25) 74(-6.6,-1.75) 75(-6.6,-2.25) 76(-6.6,-2.75) 77(-6.6,-3.25) 78(-6.6,-3.75) 79(-6.6,-4.25) 80(-6.6,-4.75)
  rect 7x7 smd: EXP(0,0)
Top Overlay:
  circle w0.254: c-4.5,-4.5 r0.75
  lines w0.203: -5.72,-5.71 5.71,-5.71 5.71,5.71 -5.72,5.71 -5.72,-5.71
Mechanical 16:
  rectangle: -4.9,-6.9 -4.6,-5.95
  rectangle: -4.4,-6.9 -4.1,-5.95
  rectangle: -3.9,-6.9 -3.6,-5.95
  rectangle: -3.4,-6.9 -3.1,-5.95
  rectangle: -2.9,-6.9 -2.6,-5.95
  rectangle: -2.4,-6.9 -2.1,-5.95
  rectangle: -1.9,-6.9 -1.6,-5.95
  rectangle: -1.4,-6.9 -1.1,-5.95
  rectangle: -0.9,-6.9 -0.6,-5.95
  rectangle: -0.4,-6.9 -0.1,-5.95
  rectangle: 0.1,-6.9 0.4,-5.95
  rectangle: 0.6,-6.9 0.9,-5.95
  rectangle: 1.1,-6.9 1.4,-5.95
  rectangle: 1.6,-6.9 1.9,-5.95
  rectangle: 2.1,-6.9 2.4,-5.95
  rectangle: 2.6,-6.9 2.9,-5.95
  rectangle: 3.1,-6.9 3.4,-5.95
  rectangle: 3.6,-6.9 3.9,-5.95
  rectangle: 4.1,-6.9 4.4,-5.95
  rectangle: 4.6,-6.9 4.9,-5.95
  rectangle: 5.95,-4.9 6.9,-4.6
  rectangle: 5.95,-4.4 6.9,-4.1
  rectangle: 5.95,-3.9 6.9,-3.6
  rectangle: 5.95,-3.4 6.9,-3.1
  rectangle: 5.95,-2.9 6.9,-2.6
  rectangle: 5.95,-2.4 6.9,-2.1
  rectangle: 5.95,-1.9 6.9,-1.6
  rectangle: 5.95,-1.4 6.9,-1.1
  rectangle: 5.95,-0.9 6.9,-0.6
  rectangle: 5.95,-0.4 6.9,-0.1
  rectangle: 5.95,0.1 6.9,0.4
  rectangle: 5.95,0.6 6.9,0.9
  rectangle: 5.95,1.1 6.9,1.4
  rectangle: 5.95,1.6 6.9,1.9
  rectangle: 5.95,2.1 6.9,2.4
  rectangle: 5.95,2.6 6.9,2.9
  rectangle: 5.95,3.1 6.9,3.4
  rectangle: 5.95,3.6 6.9,3.9
  rectangle: 5.95,4.1 6.9,4.4
  rectangle: 5.95,4.6 6.9,4.9
  rectangle: 4.6,5.95 4.9,6.9
  rectangle: 4.1,5.95 4.4,6.9
  rectangle: 3.6,5.95 3.9,6.9
  rectangle: 3.1,5.95 3.4,6.9
  rectangle: 2.6,5.95 2.9,6.9
  rectangle: 2.1,5.95 2.4,6.9
  rectangle: 1.6,5.95 1.9,6.9
  rectangle: 1.1,5.95 1.4,6.9
  rectangle: 0.6,5.95 0.9,6.9
  rectangle: 0.1,5.95 0.4,6.9
  rectangle: -0.4,5.95 -0.1,6.9
  rectangle: -0.9,5.95 -0.6,6.9
  rectangle: -1.4,5.95 -1.1,6.9
  rectangle: -1.9,5.95 -1.6,6.9
  rectangle: -2.4,5.95 -2.1,6.9
  rectangle: -2.9,5.95 -2.6,6.9
  rectangle: -3.4,5.95 -3.1,6.9
  rectangle: -3.9,5.95 -3.6,6.9
  rectangle: -4.4,5.95 -4.1,6.9
  rectangle: -4.9,5.95 -4.6,6.9
  rectangle: -6.9,4.6 -5.95,4.9
  rectangle: -6.9,4.1 -5.95,4.4
  rectangle: -6.9,3.6 -5.95,3.9
  rectangle: -6.9,3.1 -5.95,3.4
  rectangle: -6.9,2.6 -5.95,2.9
  rectangle: -6.9,2.1 -5.95,2.4
  rectangle: -6.9,1.6 -5.95,1.9
  rectangle: -6.9,1.1 -5.95,1.4
  rectangle: -6.9,0.6 -5.95,0.9
  rectangle: -6.9,0.1 -5.95,0.4
  rectangle: -6.9,-0.4 -5.95,-0.1
  rectangle: -6.9,-0.9 -5.95,-0.6
  rectangle: -6.9,-1.4 -5.95,-1.1
  rectangle: -6.9,-1.9 -5.95,-1.6
  rectangle: -6.9,-2.4 -5.95,-2.1
  rectangle: -6.9,-2.9 -5.95,-2.6
  rectangle: -6.9,-3.4 -5.95,-3.1
  rectangle: -6.9,-3.9 -5.95,-3.6
  rectangle: -6.9,-4.4 -5.95,-4.1
  rectangle: -6.9,-4.9 -5.95,-4.6
  lines w0.203: -5.91,-5.91 5.91,-5.91 5.91,5.91 -5.91,5.91 -5.91,-5.91

## SQFP-S-10X10-64 [mm]
pads (64):
  rect 0.3x1.6 smd: 1(-3.75,-5.6) 2(-3.25,-5.6) 3(-2.75,-5.6) 4(-2.25,-5.6) 5(-1.75,-5.6) 6(-1.25,-5.6) 7(-0.75,-5.6) 8(-0.25,-5.6) 9(0.25,-5.6) 10(0.75,-5.6) 11(1.25,-5.6) 12(1.75,-5.6) 13(2.25,-5.6) 14(2.75,-5.6) 15(3.25,-5.6) 16(3.75,-5.6) 33(3.75,5.6) 34(3.25,5.6) 35(2.75,5.6) 36(2.25,5.6) 37(1.75,5.6) 38(1.25,5.6) 39(0.75,5.6) 40(0.25,5.6) 41(-0.25,5.6) 42(-0.75,5.6) 43(-1.25,5.6) 44(-1.75,5.6) 45(-2.25,5.6) 46(-2.75,5.6) 47(-3.25,5.6) 48(-3.75,5.6)
  rect 1.6x0.3 smd: 17(5.6,-3.75) 18(5.6,-3.25) 19(5.6,-2.75) 20(5.6,-2.25) 21(5.6,-1.75) 22(5.6,-1.25) 23(5.6,-0.75) 24(5.6,-0.25) 25(5.6,0.25) 26(5.6,0.75) 27(5.6,1.25) 28(5.6,1.75) 29(5.6,2.25) 30(5.6,2.75) 31(5.6,3.25) 32(5.6,3.75) 49(-5.6,3.75) 50(-5.6,3.25) 51(-5.6,2.75) 52(-5.6,2.25) 53(-5.6,1.75) 54(-5.6,1.25) 55(-5.6,0.75) 56(-5.6,0.25) 57(-5.6,-0.25) 58(-5.6,-0.75) 59(-5.6,-1.25) 60(-5.6,-1.75) 61(-5.6,-2.25) 62(-5.6,-2.75) 63(-5.6,-3.25) 64(-5.6,-3.75)
Top Overlay:
  circle w0.254: c-3.75,-3.75 r0.5
  lines w0.203: -4.72,-4.71 4.71,-4.71 4.71,4.71 -4.72,4.71 -4.72,-4.71
Mechanical 16:
  rectangle: -3.9,-5.9 -3.6,-4.95
  rectangle: -3.4,-5.9 -3.1,-4.95
  rectangle: -2.9,-5.9 -2.6,-4.95
  rectangle: -2.4,-5.9 -2.1,-4.95
  rectangle: -1.9,-5.9 -1.6,-4.95
  rectangle: -1.4,-5.9 -1.1,-4.95
  rectangle: -0.9,-5.9 -0.6,-4.95
  rectangle: -0.4,-5.9 -0.1,-4.95
  rectangle: 0.1,-5.9 0.4,-4.95
  rectangle: 0.6,-5.9 0.9,-4.95
  rectangle: 1.1,-5.9 1.4,-4.95
  rectangle: 1.6,-5.9 1.9,-4.95
  rectangle: 2.1,-5.9 2.4,-4.95
  rectangle: 2.6,-5.9 2.9,-4.95
  rectangle: 3.1,-5.9 3.4,-4.95
  rectangle: 3.6,-5.9 3.9,-4.95
  rectangle: 4.95,-3.9 5.9,-3.6
  rectangle: 4.95,-3.4 5.9,-3.1
  rectangle: 4.95,-2.9 5.9,-2.6
  rectangle: 4.95,-2.4 5.9,-2.1
  rectangle: 4.95,-1.9 5.9,-1.6
  rectangle: 4.95,-1.4 5.9,-1.1
  rectangle: 4.95,-0.9 5.9,-0.6
  rectangle: 4.95,-0.4 5.9,-0.1
  rectangle: 4.95,0.1 5.9,0.4
  rectangle: 4.95,0.6 5.9,0.9
  rectangle: 4.95,1.1 5.9,1.4
  rectangle: 4.95,1.6 5.9,1.9
  rectangle: 4.95,2.1 5.9,2.4
  rectangle: 4.95,2.6 5.9,2.9
  rectangle: 4.95,3.1 5.9,3.4
  rectangle: 4.95,3.6 5.9,3.9
  rectangle: 3.6,4.95 3.9,5.9
  rectangle: 3.1,4.95 3.4,5.9
  rectangle: 2.6,4.95 2.9,5.9
  rectangle: 2.1,4.95 2.4,5.9
  rectangle: 1.6,4.95 1.9,5.9
  rectangle: 1.1,4.95 1.4,5.9
  rectangle: 0.6,4.95 0.9,5.9
  rectangle: 0.1,4.95 0.4,5.9
  rectangle: -0.4,4.95 -0.1,5.9
  rectangle: -0.9,4.95 -0.6,5.9
  rectangle: -1.4,4.95 -1.1,5.9
  rectangle: -1.9,4.95 -1.6,5.9
  rectangle: -2.4,4.95 -2.1,5.9
  rectangle: -2.9,4.95 -2.6,5.9
  rectangle: -3.4,4.95 -3.1,5.9
  rectangle: -3.9,4.95 -3.6,5.9
  rectangle: -5.9,3.6 -4.95,3.9
  rectangle: -5.9,3.1 -4.95,3.4
  rectangle: -5.9,2.6 -4.95,2.9
  rectangle: -5.9,2.1 -4.95,2.4
  rectangle: -5.9,1.6 -4.95,1.9
  rectangle: -5.9,1.1 -4.95,1.4
  rectangle: -5.9,0.6 -4.95,0.9
  rectangle: -5.9,0.1 -4.95,0.4
  rectangle: -5.9,-0.4 -4.95,-0.1
  rectangle: -5.9,-0.9 -4.95,-0.6
  rectangle: -5.9,-1.4 -4.95,-1.1
  rectangle: -5.9,-1.9 -4.95,-1.6
  rectangle: -5.9,-2.4 -4.95,-2.1
  rectangle: -5.9,-2.9 -4.95,-2.6
  rectangle: -5.9,-3.4 -4.95,-3.1
  rectangle: -5.9,-3.9 -4.95,-3.6
  lines w0.203: -4.91,-4.91 4.91,-4.91 4.91,4.91 -4.91,4.91 -4.91,-4.91
Mechanical 27:
  lines w0.2: -6.9,-6.9 -6.9,6.9 6.9,6.9 6.9,-6.9 -6.9,-6.9

## SQFP-S-20X20-112 [mm]
pads (112):
  rect 0.3x1.6 smd: 1(-8.775,-10.6) 2(-8.125,-10.6) 3(-7.475,-10.6) 4(-6.825,-10.6) 5(-6.175,-10.6) 6(-5.525,-10.6) 7(-4.875,-10.6) 8(-4.225,-10.6) 9(-3.575,-10.6) 10(-2.925,-10.6) 11(-2.275,-10.6) 12(-1.625,-10.6) 13(-0.975,-10.6) 14(-0.325,-10.6) 15(0.325,-10.6) 16(0.975,-10.6) 17(1.625,-10.6) 18(2.275,-10.6) 19(2.925,-10.6) 20(3.575,-10.6) 21(4.225,-10.6) 22(4.875,-10.6) 23(5.525,-10.6) 24(6.175,-10.6) 25(6.825,-10.6) 26(7.475,-10.6) 27(8.125,-10.6) 28(8.775,-10.6) 57(8.775,10.6) 58(8.125,10.6) 59(7.475,10.6) 60(6.825,10.6) 61(6.175,10.6) 62(5.525,10.6) 63(4.875,10.6) 64(4.225,10.6) 65(3.575,10.6) 66(2.925,10.6) 67(2.275,10.6) 68(1.625,10.6) 69(0.975,10.6) 70(0.325,10.6) 71(-0.325,10.6) 72(-0.975,10.6) 73(-1.625,10.6) 74(-2.275,10.6) 75(-2.925,10.6) 76(-3.575,10.6) 77(-4.225,10.6) 78(-4.875,10.6) 79(-5.525,10.6) 80(-6.175,10.6) 81(-6.825,10.6) 82(-7.475,10.6) 83(-8.125,10.6) 84(-8.775,10.6)
  rect 1.6x0.3 smd: 29(10.6,-8.775) 30(10.6,-8.125) 31(10.6,-7.475) 32(10.6,-6.825) 33(10.6,-6.175) 34(10.6,-5.525) 35(10.6,-4.875) 36(10.6,-4.225) 37(10.6,-3.575) 38(10.6,-2.925) 39(10.6,-2.275) 40(10.6,-1.625) 41(10.6,-0.975) 42(10.6,-0.325) 43(10.6,0.325) 44(10.6,0.975) 45(10.6,1.625) 46(10.6,2.275) 47(10.6,2.925) 48(10.6,3.575) 49(10.6,4.225) 50(10.6,4.875) 51(10.6,5.525) 52(10.6,6.175) 53(10.6,6.825) 54(10.6,7.475) 55(10.6,8.125) 56(10.6,8.775) 85(-10.6,8.775) 86(-10.6,8.125) 87(-10.6,7.475) 88(-10.6,6.825) 89(-10.6,6.175) 90(-10.6,5.525) 91(-10.6,4.875) 92(-10.6,4.225) 93(-10.6,3.575) 94(-10.6,2.925) 95(-10.6,2.275) 96(-10.6,1.625) 97(-10.6,0.975) 98(-10.6,0.325) 99(-10.6,-0.325) 100(-10.6,-0.975) 101(-10.6,-1.625) 102(-10.6,-2.275) 103(-10.6,-2.925) 104(-10.6,-3.575) 105(-10.6,-4.225) 106(-10.6,-4.875) 107(-10.6,-5.525) 108(-10.6,-6.175) 109(-10.6,-6.825) 110(-10.6,-7.475) 111(-10.6,-8.125) 112(-10.6,-8.775)
Top Overlay:
  circle w0.254: c-8.5,-8.5 r0.75
  lines w0.203: -9.72,-9.71 9.71,-9.71 9.71,9.71 -9.72,9.71 -9.72,-9.71
Mechanical 16:
  rectangle: -8.925,-10.9 -8.625,-9.95
  rectangle: -8.275,-10.9 -7.975,-9.95
  rectangle: -7.625,-10.9 -7.325,-9.95
  rectangle: -6.975,-10.9 -6.675,-9.95
  rectangle: -6.325,-10.9 -6.025,-9.95
  rectangle: -5.675,-10.9 -5.375,-9.95
  rectangle: -5.025,-10.9 -4.725,-9.95
  rectangle: -4.375,-10.9 -4.075,-9.95
  rectangle: -3.725,-10.9 -3.425,-9.95
  rectangle: -3.075,-10.9 -2.775,-9.95
  rectangle: -2.425,-10.9 -2.125,-9.95
  rectangle: -1.775,-10.9 -1.475,-9.95
  rectangle: -1.125,-10.9 -0.825,-9.95
  rectangle: -0.475,-10.9 -0.175,-9.95
  rectangle: 0.175,-10.9 0.475,-9.95
  rectangle: 0.825,-10.9 1.125,-9.95
  rectangle: 1.475,-10.9 1.775,-9.95
  rectangle: 2.125,-10.9 2.425,-9.95
  rectangle: 2.775,-10.9 3.075,-9.95
  rectangle: 3.425,-10.9 3.725,-9.95
  rectangle: 4.075,-10.9 4.375,-9.95
  rectangle: 4.725,-10.9 5.025,-9.95
  rectangle: 5.375,-10.9 5.675,-9.95
  rectangle: 6.025,-10.9 6.325,-9.95
  rectangle: 6.675,-10.9 6.975,-9.95
  rectangle: 7.325,-10.9 7.625,-9.95
  rectangle: 7.975,-10.9 8.275,-9.95
  rectangle: 8.625,-10.9 8.925,-9.95
  region: 10.9,-8.925 10.9,-8.625 9.95,-8.625 9.95,-8.925
  region: 10.9,-8.275 10.9,-7.975 9.95,-7.975 9.95,-8.275
  region: 10.9,-7.625 10.9,-7.325 9.95,-7.325 9.95,-7.625
  region: 10.9,-6.975 10.9,-6.675 9.95,-6.675 9.95,-6.975
  region: 10.9,-6.325 10.9,-6.025 9.95,-6.025 9.95,-6.325
  region: 10.9,-5.675 10.9,-5.375 9.95,-5.375 9.95,-5.675
  region: 10.9,-5.025 10.9,-4.725 9.95,-4.725 9.95,-5.025
  region: 10.9,-4.375 10.9,-4.075 9.95,-4.075 9.95,-4.375
  region: 10.9,-3.725 10.9,-3.425 9.95,-3.425 9.95,-3.725
  region: 10.9,-3.075 10.9,-2.775 9.95,-2.775 9.95,-3.075
  region: 10.9,-2.425 10.9,-2.125 9.95,-2.125 9.95,-2.425
  region: 10.9,-1.775 10.9,-1.475 9.95,-1.475 9.95,-1.775
  region: 10.9,-1.125 10.9,-0.825 9.95,-0.825 9.95,-1.125
  region: 10.9,-0.475 10.9,-0.175 9.95,-0.175 9.95,-0.475
  region: 10.9,0.175 10.9,0.475 9.95,0.475 9.95,0.175
  region: 10.9,0.825 10.9,1.125 9.95,1.125 9.95,0.825
  region: 10.9,1.475 10.9,1.775 9.95,1.775 9.95,1.475
  region: 10.9,2.125 10.9,2.425 9.95,2.425 9.95,2.125
  region: 10.9,2.775 10.9,3.075 9.95,3.075 9.95,2.775
  region: 10.9,3.425 10.9,3.725 9.95,3.725 9.95,3.425
  region: 10.9,4.075 10.9,4.375 9.95,4.375 9.95,4.075
  region: 10.9,4.725 10.9,5.025 9.95,5.025 9.95,4.725
  region: 10.9,5.375 10.9,5.675 9.95,5.675 9.95,5.375
  region: 10.9,6.025 10.9,6.325 9.95,6.325 9.95,6.025
  region: 10.9,6.675 10.9,6.975 9.95,6.975 9.95,6.675
  region: 10.9,7.325 10.9,7.625 9.95,7.625 9.95,7.325
  region: 10.9,7.975 10.9,8.275 9.95,8.275 9.95,7.975
  region: 10.9,8.625 10.9,8.925 9.95,8.925 9.95,8.625
  region: 8.925,10.9 8.625,10.9 8.625,9.95 8.925,9.95
  region: 8.275,10.9 7.975,10.9 7.975,9.95 8.275,9.95
  region: 7.625,10.9 7.325,10.9 7.325,9.95 7.625,9.95
  region: 6.975,10.9 6.675,10.9 6.675,9.95 6.975,9.95
  region: 6.325,10.9 6.025,10.9 6.025,9.95 6.325,9.95
  region: 5.675,10.9 5.375,10.9 5.375,9.95 5.675,9.95
  region: 5.025,10.9 4.725,10.9 4.725,9.95 5.025,9.95
  region: 4.375,10.9 4.075,10.9 4.075,9.95 4.375,9.95
  region: 3.725,10.9 3.425,10.9 3.425,9.95 3.725,9.95
  region: 3.075,10.9 2.775,10.9 2.775,9.95 3.075,9.95
  region: 2.425,10.9 2.125,10.9 2.125,9.95 2.425,9.95
  region: 1.775,10.9 1.475,10.9 1.475,9.95 1.775,9.95
  region: 1.125,10.9 0.825,10.9 0.825,9.95 1.125,9.95
  region: 0.475,10.9 0.175,10.9 0.175,9.95 0.475,9.95
  region: -0.175,10.9 -0.475,10.9 -0.475,9.95 -0.175,9.95
  region: -0.825,10.9 -1.125,10.9 -1.125,9.95 -0.825,9.95
  region: -1.475,10.9 -1.775,10.9 -1.775,9.95 -1.475,9.95
  region: -2.125,10.9 -2.425,10.9 -2.425,9.95 -2.125,9.95
  region: -2.775,10.9 -3.075,10.9 -3.075,9.95 -2.775,9.95
  region: -3.425,10.9 -3.725,10.9 -3.725,9.95 -3.425,9.95
  region: -4.075,10.9 -4.375,10.9 -4.375,9.95 -4.075,9.95
  region: -4.725,10.9 -5.025,10.9 -5.025,9.95 -4.725,9.95
  region: -5.375,10.9 -5.675,10.9 -5.675,9.95 -5.375,9.95
  region: -6.025,10.9 -6.325,10.9 -6.325,9.95 -6.025,9.95
  region: -6.675,10.9 -6.975,10.9 -6.975,9.95 -6.675,9.95
  region: -7.325,10.9 -7.625,10.9 -7.625,9.95 -7.325,9.95
  region: -7.975,10.9 -8.275,10.9 -8.275,9.95 -7.975,9.95
  region: -8.625,10.9 -8.925,10.9 -8.925,9.95 -8.625,9.95
  region: -10.9,8.925 -10.9,8.625 -9.95,8.625 -9.95,8.925
  region: -10.9,8.275 -10.9,7.975 -9.95,7.975 -9.95,8.275
  region: -10.9,7.625 -10.9,7.325 -9.95,7.325 -9.95,7.625
  region: -10.9,6.975 -10.9,6.675 -9.95,6.675 -9.95,6.975
  region: -10.9,6.325 -10.9,6.025 -9.95,6.025 -9.95,6.325
  region: -10.9,5.675 -10.9,5.375 -9.95,5.375 -9.95,5.675
  region: -10.9,5.025 -10.9,4.725 -9.95,4.725 -9.95,5.025
  region: -10.9,4.375 -10.9,4.075 -9.95,4.075 -9.95,4.375
  region: -10.9,3.725 -10.9,3.425 -9.95,3.425 -9.95,3.725
  region: -10.9,3.075 -10.9,2.775 -9.95,2.775 -9.95,3.075
  region: -10.9,2.425 -10.9,2.125 -9.95,2.125 -9.95,2.425
  region: -10.9,1.775 -10.9,1.475 -9.95,1.475 -9.95,1.775
  region: -10.9,1.125 -10.9,0.825 -9.95,0.825 -9.95,1.125
  region: -10.9,0.475 -10.9,0.175 -9.95,0.175 -9.95,0.475
  region: -10.9,-0.175 -10.9,-0.475 -9.95,-0.475 -9.95,-0.175
  region: -10.9,-0.825 -10.9,-1.125 -9.95,-1.125 -9.95,-0.825
  region: -10.9,-1.475 -10.9,-1.775 -9.95,-1.775 -9.95,-1.475
  region: -10.9,-2.125 -10.9,-2.425 -9.95,-2.425 -9.95,-2.125
  region: -10.9,-2.775 -10.9,-3.075 -9.95,-3.075 -9.95,-2.775
  region: -10.9,-3.425 -10.9,-3.725 -9.95,-3.725 -9.95,-3.425
  region: -10.9,-4.075 -10.9,-4.375 -9.95,-4.375 -9.95,-4.075
  region: -10.9,-4.725 -10.9,-5.025 -9.95,-5.025 -9.95,-4.725
  region: -10.9,-5.375 -10.9,-5.675 -9.95,-5.675 -9.95,-5.375
  region: -10.9,-6.025 -10.9,-6.325 -9.95,-6.325 -9.95,-6.025
  region: -10.9,-6.675 -10.9,-6.975 -9.95,-6.975 -9.95,-6.675
  region: -10.9,-7.325 -10.9,-7.625 -9.95,-7.625 -9.95,-7.325
  region: -10.9,-7.975 -10.9,-8.275 -9.95,-8.275 -9.95,-7.975
  region: -10.9,-8.625 -10.9,-8.925 -9.95,-8.925 -9.95,-8.625
  lines w0.203: -9.91,-9.91 9.91,-9.91 9.91,9.91 -9.91,9.91 -9.91,-9.91

## SQFP-S-20X20-144 [mm]
pads (144):
  rect 0.3x1.6 smd: 1(-8.75,-10.6) 2(-8.25,-10.6) 3(-7.75,-10.6) 4(-7.25,-10.6) 5(-6.75,-10.6) 6(-6.25,-10.6) 7(-5.75,-10.6) 8(-5.25,-10.6) 9(-4.75,-10.6) 10(-4.25,-10.6) 11(-3.75,-10.6) 12(-3.25,-10.6) 13(-2.75,-10.6) 14(-2.25,-10.6) 15(-1.75,-10.6) 16(-1.25,-10.6) 17(-0.75,-10.6) 18(-0.25,-10.6) 19(0.25,-10.6) 20(0.75,-10.6) 21(1.25,-10.6) 22(1.75,-10.6) 23(2.25,-10.6) 24(2.75,-10.6) 25(3.25,-10.6) 26(3.75,-10.6) 27(4.25,-10.6) 28(4.75,-10.6) 29(5.25,-10.6) 30(5.75,-10.6) 31(6.25,-10.6) 32(6.75,-10.6) 33(7.25,-10.6) 34(7.75,-10.6) 35(8.25,-10.6) 36(8.75,-10.6) 73(8.75,10.6) 74(8.25,10.6) 75(7.75,10.6) 76(7.25,10.6) 77(6.75,10.6) 78(6.25,10.6) 79(5.75,10.6) 80(5.25,10.6) 81(4.75,10.6) 82(4.25,10.6) 83(3.75,10.6) 84(3.25,10.6) 85(2.75,10.6) 86(2.25,10.6) 87(1.75,10.6) 88(1.25,10.6) 89(0.75,10.6) 90(0.25,10.6) 91(-0.25,10.6) 92(-0.75,10.6) 93(-1.25,10.6) 94(-1.75,10.6) 95(-2.25,10.6) 96(-2.75,10.6) 97(-3.25,10.6) 98(-3.75,10.6) 99(-4.25,10.6) 100(-4.75,10.6) 101(-5.25,10.6) 102(-5.75,10.6) 103(-6.25,10.6) 104(-6.75,10.6) 105(-7.25,10.6) 106(-7.75,10.6) 107(-8.25,10.6) 108(-8.75,10.6)
  rect 1.6x0.3 smd: 37(10.6,-8.75) 38(10.6,-8.25) 39(10.6,-7.75) 40(10.6,-7.25) 41(10.6,-6.75) 42(10.6,-6.25) 43(10.6,-5.75) 44(10.6,-5.25) 45(10.6,-4.75) 46(10.6,-4.25) 47(10.6,-3.75) 48(10.6,-3.25) 49(10.6,-2.75) 50(10.6,-2.25) 51(10.6,-1.75) 52(10.6,-1.25) 53(10.6,-0.75) 54(10.6,-0.25) 55(10.6,0.25) 56(10.6,0.75) 57(10.6,1.25) 58(10.6,1.75) 59(10.6,2.25) 60(10.6,2.75) 61(10.6,3.25) 62(10.6,3.75) 63(10.6,4.25) 64(10.6,4.75) 65(10.6,5.25) 66(10.6,5.75) 67(10.6,6.25) 68(10.6,6.75) 69(10.6,7.25) 70(10.6,7.75) 71(10.6,8.25) 72(10.6,8.75) 109(-10.6,8.75) 110(-10.6,8.25) 111(-10.6,7.75) 112(-10.6,7.25) 113(-10.6,6.75) 114(-10.6,6.25) 115(-10.6,5.75) 116(-10.6,5.25) 117(-10.6,4.75) 118(-10.6,4.25) 119(-10.6,3.75) 120(-10.6,3.25) 121(-10.6,2.75) 122(-10.6,2.25) 123(-10.6,1.75) 124(-10.6,1.25) 125(-10.6,0.75) 126(-10.6,0.25) 127(-10.6,-0.25) 128(-10.6,-0.75) 129(-10.6,-1.25) 130(-10.6,-1.75) 131(-10.6,-2.25) 132(-10.6,-2.75) 133(-10.6,-3.25) 134(-10.6,-3.75) 135(-10.6,-4.25) 136(-10.6,-4.75) 137(-10.6,-5.25) 138(-10.6,-5.75) 139(-10.6,-6.25) 140(-10.6,-6.75) 141(-10.6,-7.25) 142(-10.6,-7.75) 143(-10.6,-8.25) 144(-10.6,-8.75)
Top Overlay:
  circle w0.254: c-8.5,-8.5 r0.75
  lines w0.203: -9.72,-9.71 9.71,-9.71 9.71,9.71 -9.72,9.71 -9.72,-9.71
Mechanical 16:
  rectangle: -8.9,-10.9 -8.6,-9.95
  rectangle: -8.4,-10.9 -8.1,-9.95
  rectangle: -7.9,-10.9 -7.6,-9.95
  rectangle: -7.4,-10.9 -7.1,-9.95
  rectangle: -6.9,-10.9 -6.6,-9.95
  rectangle: -6.4,-10.9 -6.1,-9.95
  rectangle: -5.9,-10.9 -5.6,-9.95
  rectangle: -5.4,-10.9 -5.1,-9.95
  rectangle: -4.9,-10.9 -4.6,-9.95
  rectangle: -4.4,-10.9 -4.1,-9.95
  rectangle: -3.9,-10.9 -3.6,-9.95
  rectangle: -3.4,-10.9 -3.1,-9.95
  rectangle: -2.9,-10.9 -2.6,-9.95
  rectangle: -2.4,-10.9 -2.1,-9.95
  rectangle: -1.9,-10.9 -1.6,-9.95
  rectangle: -1.4,-10.9 -1.1,-9.95
  rectangle: -0.9,-10.9 -0.6,-9.95
  rectangle: -0.4,-10.9 -0.1,-9.95
  rectangle: 0.1,-10.9 0.4,-9.95
  rectangle: 0.6,-10.9 0.9,-9.95
  rectangle: 1.1,-10.9 1.4,-9.95
  rectangle: 1.6,-10.9 1.9,-9.95
  rectangle: 2.1,-10.9 2.4,-9.95
  rectangle: 2.6,-10.9 2.9,-9.95
  rectangle: 3.1,-10.9 3.4,-9.95
  rectangle: 3.6,-10.9 3.9,-9.95
  rectangle: 4.1,-10.9 4.4,-9.95
  rectangle: 4.6,-10.9 4.9,-9.95
  rectangle: 5.1,-10.9 5.4,-9.95
  rectangle: 5.6,-10.9 5.9,-9.95
  rectangle: 6.1,-10.9 6.4,-9.95
  rectangle: 6.6,-10.9 6.9,-9.95
  rectangle: 7.1,-10.9 7.4,-9.95
  rectangle: 7.6,-10.9 7.9,-9.95
  rectangle: 8.1,-10.9 8.4,-9.95
  rectangle: 8.6,-10.9 8.9,-9.95
  rectangle: 9.95,-8.9 10.9,-8.6
  rectangle: 9.95,-8.4 10.9,-8.1
  rectangle: 9.95,-7.9 10.9,-7.6
  rectangle: 9.95,-7.4 10.9,-7.1
  rectangle: 9.95,-6.9 10.9,-6.6
  rectangle: 9.95,-6.4 10.9,-6.1
  rectangle: 9.95,-5.9 10.9,-5.6
  rectangle: 9.95,-5.4 10.9,-5.1
  rectangle: 9.95,-4.9 10.9,-4.6
  rectangle: 9.95,-4.4 10.9,-4.1
  rectangle: 9.95,-3.9 10.9,-3.6
  rectangle: 9.95,-3.4 10.9,-3.1
  rectangle: 9.95,-2.9 10.9,-2.6
  rectangle: 9.95,-2.4 10.9,-2.1
  rectangle: 9.95,-1.9 10.9,-1.6
  rectangle: 9.95,-1.4 10.9,-1.1
  rectangle: 9.95,-0.9 10.9,-0.6
  rectangle: 9.95,-0.4 10.9,-0.1
  rectangle: 9.95,0.1 10.9,0.4
  rectangle: 9.95,0.6 10.9,0.9
  rectangle: 9.95,1.1 10.9,1.4
  rectangle: 9.95,1.6 10.9,1.9
  rectangle: 9.95,2.1 10.9,2.4
  rectangle: 9.95,2.6 10.9,2.9
  rectangle: 9.95,3.1 10.9,3.4
  rectangle: 9.95,3.6 10.9,3.9
  rectangle: 9.95,4.1 10.9,4.4
  rectangle: 9.95,4.6 10.9,4.9
  rectangle: 9.95,5.1 10.9,5.4
  rectangle: 9.95,5.6 10.9,5.9
  rectangle: 9.95,6.1 10.9,6.4
  rectangle: 9.95,6.6 10.9,6.9
  rectangle: 9.95,7.1 10.9,7.4
  rectangle: 9.95,7.6 10.9,7.9
  rectangle: 9.95,8.1 10.9,8.4
  rectangle: 9.95,8.6 10.9,8.9
  rectangle: 8.6,9.95 8.9,10.9
  rectangle: 8.1,9.95 8.4,10.9
  rectangle: 7.6,9.95 7.9,10.9
  rectangle: 7.1,9.95 7.4,10.9
  rectangle: 6.6,9.95 6.9,10.9
  rectangle: 6.1,9.95 6.4,10.9
  rectangle: 5.6,9.95 5.9,10.9
  rectangle: 5.1,9.95 5.4,10.9
  rectangle: 4.6,9.95 4.9,10.9
  rectangle: 4.1,9.95 4.4,10.9
  rectangle: 3.6,9.95 3.9,10.9
  rectangle: 3.1,9.95 3.4,10.9
  rectangle: 2.6,9.95 2.9,10.9
  rectangle: 2.1,9.95 2.4,10.9
  rectangle: 1.6,9.95 1.9,10.9
  rectangle: 1.1,9.95 1.4,10.9
  rectangle: 0.6,9.95 0.9,10.9
  rectangle: 0.1,9.95 0.4,10.9
  rectangle: -0.4,9.95 -0.1,10.9
  rectangle: -0.9,9.95 -0.6,10.9
  rectangle: -1.4,9.95 -1.1,10.9
  rectangle: -1.9,9.95 -1.6,10.9
  rectangle: -2.4,9.95 -2.1,10.9
  rectangle: -2.9,9.95 -2.6,10.9
  rectangle: -3.4,9.95 -3.1,10.9
  rectangle: -3.9,9.95 -3.6,10.9
  rectangle: -4.4,9.95 -4.1,10.9
  rectangle: -4.9,9.95 -4.6,10.9
  rectangle: -5.4,9.95 -5.1,10.9
  rectangle: -5.9,9.95 -5.6,10.9
  rectangle: -6.4,9.95 -6.1,10.9
  rectangle: -6.9,9.95 -6.6,10.9
  rectangle: -7.4,9.95 -7.1,10.9
  rectangle: -7.9,9.95 -7.6,10.9
  rectangle: -8.4,9.95 -8.1,10.9
  rectangle: -8.9,9.95 -8.6,10.9
  rectangle: -10.9,8.6 -9.95,8.9
  rectangle: -10.9,8.1 -9.95,8.4
  rectangle: -10.9,7.6 -9.95,7.9
  rectangle: -10.9,7.1 -9.95,7.4
  rectangle: -10.9,6.6 -9.95,6.9
  rectangle: -10.9,6.1 -9.95,6.4
  rectangle: -10.9,5.6 -9.95,5.9
  rectangle: -10.9,5.1 -9.95,5.4
  rectangle: -10.9,4.6 -9.95,4.9
  rectangle: -10.9,4.1 -9.95,4.4
  rectangle: -10.9,3.6 -9.95,3.9
  rectangle: -10.9,3.1 -9.95,3.4
  rectangle: -10.9,2.6 -9.95,2.9
  rectangle: -10.9,2.1 -9.95,2.4
  rectangle: -10.9,1.6 -9.95,1.9
  rectangle: -10.9,1.1 -9.95,1.4
  rectangle: -10.9,0.6 -9.95,0.9
  rectangle: -10.9,0.1 -9.95,0.4
  rectangle: -10.9,-0.4 -9.95,-0.1
  rectangle: -10.9,-0.9 -9.95,-0.6
  rectangle: -10.9,-1.4 -9.95,-1.1
  rectangle: -10.9,-1.9 -9.95,-1.6
  rectangle: -10.9,-2.4 -9.95,-2.1
  rectangle: -10.9,-2.9 -9.95,-2.6
  rectangle: -10.9,-3.4 -9.95,-3.1
  rectangle: -10.9,-3.9 -9.95,-3.6
  rectangle: -10.9,-4.4 -9.95,-4.1
  rectangle: -10.9,-4.9 -9.95,-4.6
  rectangle: -10.9,-5.4 -9.95,-5.1
  rectangle: -10.9,-5.9 -9.95,-5.6
  rectangle: -10.9,-6.4 -9.95,-6.1
  rectangle: -10.9,-6.9 -9.95,-6.6
  rectangle: -10.9,-7.4 -9.95,-7.1
  rectangle: -10.9,-7.9 -9.95,-7.6
  rectangle: -10.9,-8.4 -9.95,-8.1
  rectangle: -10.9,-8.9 -9.95,-8.6
  lines w0.203: -9.91,-9.91 9.91,-9.91 9.91,9.91 -9.91,9.91 -9.91,-9.91
Mechanical 27:
  lines w0.2: -11.9,-11.9 -11.9,11.9 11.9,11.9 11.9,-11.9 -11.9,-11.9